# Altium footprint library adp5054.PcbLib: 1 footprints
Each footprint in its own frame and in the unit in brackets; x right, y up, seen from the top. Pads: shape width x height; smd on the part's side, far side on the other; paste and mask are expansions set on the pad; w line width, h text height; cw(c..) or ccw(c..) is an arc to the next point about the centre after c.
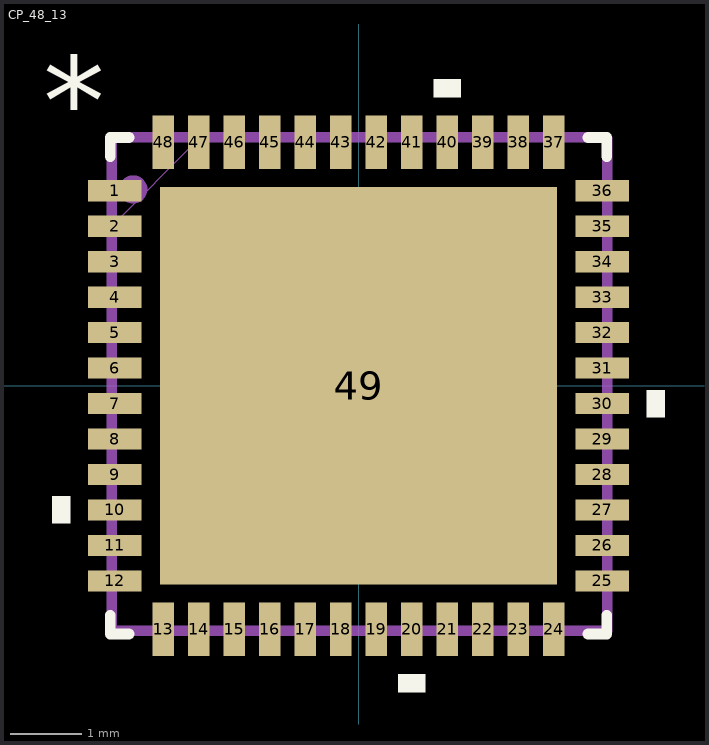
[diagram p0: the footprint, top view; thin cyan lines are the x and y axes]

## CP_48_13 [mm]
pads (49):
  rect 0.755x0.3 smd: 1(-3.433,2.75) 2(-3.433,2.25) 3(-3.433,1.75) 4(-3.433,1.25) 5(-3.433,0.75) 6(-3.433,0.25) 7(-3.433,-0.25) 8(-3.433,-0.75) 9(-3.433,-1.25) 10(-3.433,-1.75) 11(-3.433,-2.25) 12(-3.433,-2.75) 25(3.433,-2.75) 26(3.433,-2.25) 27(3.433,-1.75) 28(3.433,-1.25) 29(3.433,-0.75) 30(3.433,-0.25) 31(3.433,0.25) 32(3.433,0.75) 33(3.433,1.25) 34(3.433,1.75) 35(3.433,2.25) 36(3.433,2.75)
  rect 0.3x0.755 smd: 13(-2.75,-3.433) 14(-2.25,-3.433) 15(-1.75,-3.433) 16(-1.25,-3.433) 17(-0.75,-3.433) 18(-0.25,-3.433) 19(0.25,-3.433) 20(0.75,-3.433) 21(1.25,-3.433) 22(1.75,-3.433) 23(2.25,-3.433) 24(2.75,-3.433) 37(2.75,3.433) 38(2.25,3.433) 39(1.75,3.433) 40(1.25,3.433) 41(0.75,3.433) 42(0.25,3.433) 43(-0.25,3.433) 44(-0.75,3.433) 45(-1.25,3.433) 46(-1.75,3.433) 47(-2.25,3.433) 48(-2.75,3.433)
  rect 5.6x5.6 smd mask-2.781: 49(0,0)
Top Overlay:
  region: -4.064,-1.559 -4.318,-1.559 -4.318,-1.94 -4.064,-1.94
  region: 0.941,-4.064 0.56,-4.064 0.56,-4.318 0.941,-4.318
  region: 4.064,-0.059 4.318,-0.059 4.318,-0.44 4.064,-0.44
  region: 1.441,4.064 1.06,4.064 1.06,4.318 1.441,4.318
  lines w0.152: -3.5,-3.233 -3.5,-3.5 -3.233,-3.5 ; -3.5,3.233 -3.5,3.5 -3.233,3.5 ; 3.233,-3.5 3.5,-3.5 3.5,-3.233 ; 3.233,3.5 3.5,3.5 3.5,3.233
  text "*" at -4.445,3.381 h1.27
Mechanical 1:
  drawing of 197 lines, arcs and shapes, not listed
  text "*" at -4.445,3.381 h1.27
Mechanical 29:
  lines w0.15: 3.48,3.505 -3.454,3.505 -3.48,3.48 -3.48,-3.454 3.505,-3.454 3.505,3.48
  lines w0.254: -3.105,2.755 cw(c-3.175,2.769) -3.103,2.769
  text ".Designator" at -1.981,-0.432 h1.02
3D body: height 0.8, standoff 0, extent -3.522,-3.5 3.5,3.516